# EAGLE library part SCHALTER_ELMA_01_2X6 (library 1A-meinLib)
Stufenschalter 2x6, ELMA, Typ 01-1264, Achse Ø4x30
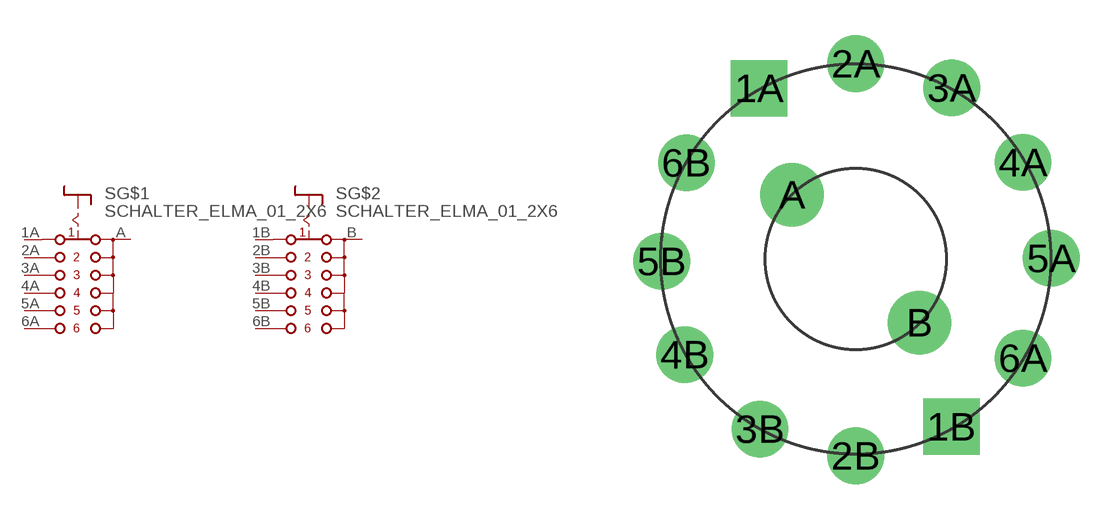
[diagram p119: symbol with the pads of SWITCH_ELMA_01; footprint SWITCH_ELMA_01]

Designator prefix S; gates G$1=SWITCH-6POL G$2=SWITCH-6POL

## SCHALTER_ELMA_01_2X6  [SWITCH_ELMA_01]
1A  G$1:1  pas
1B  G$2:1  pas
2A  G$1:2  pas
2B  G$2:2  pas
3A  G$1:3  pas
3B  G$2:3  pas
4A  G$1:4  pas
4B  G$2:4  pas
5A  G$1:5  pas
5B  G$2:5  pas
6A  G$1:6  pas
6B  G$2:6  pas
A  G$1:A  pas
B  G$2:A  pas

## Footprint SWITCH_ELMA_01 (pad centres in mm)
drill 1.6 square: 1A -4.094,7.237; 1B 4.05,-7.11
drill 1.6 round: 2A 0,8.278; 2B 0,-8.342; 3A 4.062,7.256; 3B -4.05,-7.205; 4A 7.078,4.095; 4B -7.237,-4.05; 5A 8.278,0.032; 5B -8.214,-0.096; 6A 7.078,-4.197; 6B -7.173,4.082
drill 1.8 round: A -2.699,2.724; B 2.699,-2.699